# Altium footprint library P6AU-XXXXE.PcbLib: 1 footprints
Each footprint in its own frame and in the unit in brackets; x right, y up, seen from the top. Pads: shape width x height; smd on the part's side, far side on the other; paste and mask are expansions set on the pad; w line width, h text height; cw(c..) or ccw(c..) is an arc to the next point about the centre after c.
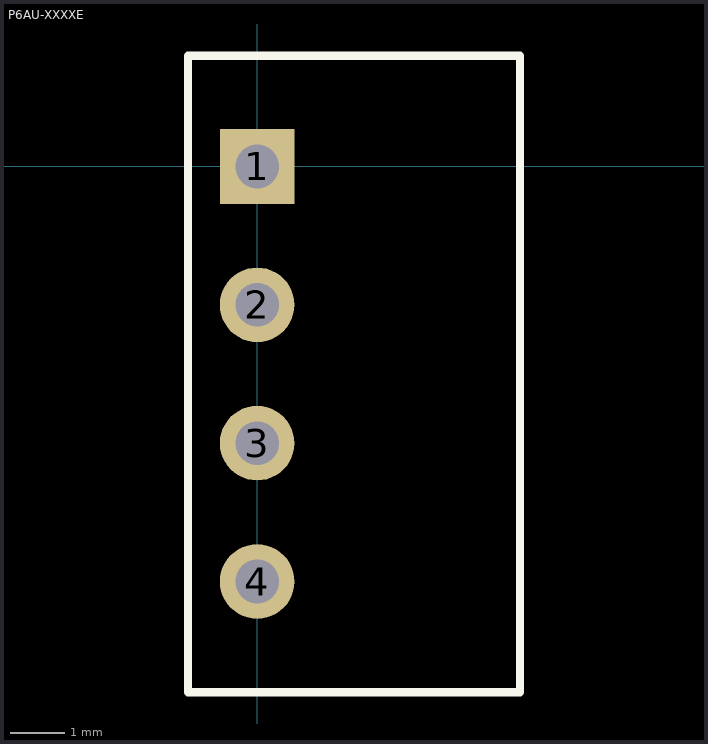
[diagram p0: the footprint, top view; thin cyan lines are the x and y axes]

## P6AU-XXXXE [mil]
pads (4):
  rect 54x54 hole 31.5: 1(0,0)
  round 54 hole 31.5: 2(0,-100) 3(0,-200) 4(0,-300)
Top Overlay:
  lines w6: -50,-380 -50,80 190,80 190,-380 -50,-380
3D body: height 354.33, standoff 0, extent -50,-380 190,80